# Altium schematic symbol library Power_Protection.SchLib: 98 symbols
Pins are listed as number, name and electrical type; pins without a type are passive.

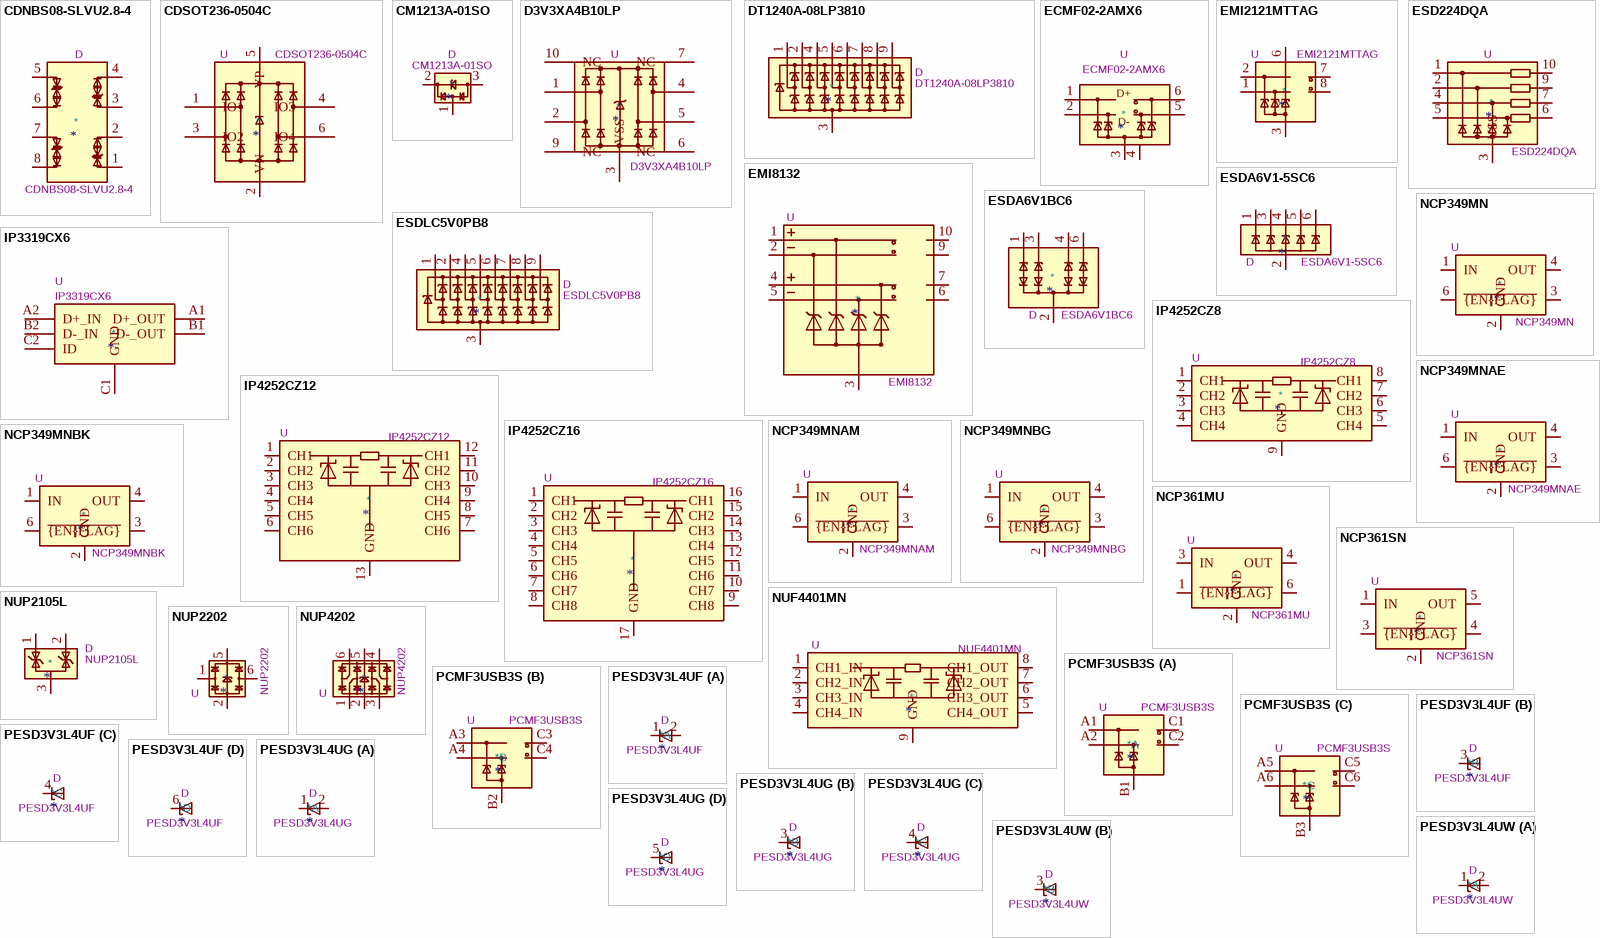
[diagram p0: symbols CDNBS08-SLVU2.8-4 to PESD3V3L4UW]

## CDNBS08-SLVU2.8-4
designator *  value CDNBS08-SLVU2.8-4  Reference: D
ki_keywords: ESD protection suppression transient; ki_description: Quad bidirectional transil, Suppressor for ESD protection, 5V Standoff, 4 Channels, SOIC-8; ki_fp_filters: SOIC*3.9x4.9mm*P1.27mm*; Footprint: Package_SO:SOIC-8_3.9x4.9mm_P1.27mm; Datasheet: https://www.bourns.com/pdfs/CDNBS08-SLVU28-4.pdf
pins: 1 TVS1, 2 TVS2, 3 TVS1, 4 TVS2, 5 TVS1, 6 TVS2, 7 TVS1, 8 TVS2

## CDSOT236-0504C
designator *  value CDSOT236-0504C  Reference: U
ki_keywords: ESD protection diodes; ki_description: Low capacitance ESD diode / steering Diode Array, SOT23-6; ki_fp_filters: SOT?23*; Footprint: Package_TO_SOT_SMD:SOT-23-6; Datasheet: https://www.bourns.com/docs/product-datasheets/cdsot236-0504c.pdf
pins: 1 IO1, 2 VN, 3 IO2, 4 IO3, 5 VP, 6 IO4

## CM1213A-01SO
designator *  value CM1213A-01SO  Reference: D
ki_keywords: ESD Protection diodes transient suppressor; ki_description: Single Channel ESD Protection Array; ki_fp_filters: SOT?23*; Footprint: Package_TO_SOT_SMD:SOT-23; Datasheet: http://www.onsemi.com/pub_link/Collateral/CM1213A-D.PDF
pins: 1 CH1, 2 VP, 3 VN

## D3V3XA4B10LP
designator *  value D3V3XA4B10LP  Reference: U
ki_keywords: ESD protection TVS; ki_description: 4-Channel Low Capacitance TVS Diode Array, DFN-10; ki_fp_filters: Diodes*UDFN*1.0x2.5mm*P0.5mm*; Footprint: Package_DFN_QFN:Diodes_UDFN-10_1.0x2.5mm_P0.5mm; Datasheet: https://www.diodes.com/assets/Datasheets/D3V3XA4B10LP.pdf
pins: 1, 2, 3 VSS, 4, 5, 6 NC, 7 NC, 8 VSS hidden, 9 NC, 10 NC

## DT1240A-08LP3810
designator *  value DT1240A-08LP3810  Reference: D
ki_keywords: usb esd protection suppression transient; ki_description: Low Capacitance TVS Diode Array, 3.3V Standoff, 8 Channels, UDFN-9; ki_fp_filters: UDFN*1.0x3.8mm*P0.5mm*; Footprint: Package_DFN_QFN:UDFN-9_1.0x3.8mm_P0.5mm; Datasheet: https://www.diodes.com/assets/Datasheets/DT1240A-08LP3810.pdf
pins: 1 K1, 2 K2, 3 A, 4 K3, 5 K4, 6 K5, 7 K6, 8 K7, 9 K8

## ECMF02-2AMX6
designator *  value ECMF02-2AMX6  Reference: U
ki_keywords: Common Mode ESD; ki_description: Single Pair Common Mode Filter with ESD Protection, UQFN-6L; ki_fp_filters: ST?UQFN*L?1.5x1.7mm*P0.5mm*; Footprint: Package_DFN_QFN:ST_UQFN-6L_1.5x1.7mm_P0.5mm; Datasheet: https://www.st.com/resource/en/datasheet/ecmf02-2amx6.pdf
pins: 1 D+_in, 2 D-_in, 3 GND, 4 NC, 5 D-_out, 6 D+_out
text: D+; D-

## EMI2121MTTAG
designator *  value EMI2121MTTAG  Reference: U
ki_keywords: Common Mode ESD; ki_description: Single Pair Common Mode Filter with ESD Protection, WDFN-8; ki_fp_filters: WDFN*1EP*2x2.2mm*P0.5mm*; Footprint: Package_DFN_QFN:WDFN-8-1EP_2x2.2mm_P0.5mm_EP0.80x0.54; Datasheet: https://www.onsemi.com/pub/Collateral/EMI2121MT-D.PDF
pins: 1 In_1+, 2 In_1-, 3 GND, 4 GND hidden, 5 GND hidden, 6 VDD, 7 Out_1-, 8 Out_1+, 9 GND hidden

## EMI8132
designator *  value EMI8132  Reference: U
ki_keywords: Common Mode ESD; ki_description: On Semi, Dual Pair Common Mode Filter with ESD Protection, 3.3V working voltage, XDFN-10; ki_fp_filters: *XDFN*1.35x2.2mm*P0.4mm*; Footprint: Package_DFN_QFN:OnSemi_XDFN-10_1.35x2.2mm_P0.4mm; Datasheet: https://www.onsemi.com/pdf/datasheet/emi8132-d.pdf
pins: 1 In_1+, 2 In_1-, 3 GND, 4 In_1+, 5 In_1-, 6 Out_1+, 7 Out_1+, 8 GND hidden, 9 Out_1+, 10 Out_1+

## ESD224DQA
designator *  value ESD224DQA  Reference: U
ki_keywords: ESD protection TVS; ki_description: 4-Channel Low Capacitance TVS Diode Array, USON-10; ki_fp_filters: Diodes*UDFN*1.0x2.5mm*P0.5mm*; Footprint: Package_DFN_QFN:Diodes_UDFN-10_1.0x2.5mm_P0.5mm; Datasheet: https://www.ti.com/lit/ds/symlink/esd224.pdf
pins: 1, 2, 3 VSS, 4, 5, 6, 7, 8 VSS hidden, 9, 10

## ESDA6V1-5SC6
designator *  value ESDA6V1-5SC6  Reference: D
ki_keywords: ESD protection suppression transient; ki_description: Quintuple bidirectional transil, Suppressor for ESD protection, 6V1 Breakdown, SOT-23-6; ki_fp_filters: SOT?23*; Footprint: Package_TO_SOT_SMD:SOT-23-6; Datasheet: www.st.com/resource/en/datasheet/esda6v1-5sc6.pdf
pins: 1 IO1, 2 GND, 3 IO2, 4 IO3, 5 IO4, 6 IO5

## ESDA6V1BC6
designator *  value ESDA6V1BC6  Reference: D
ki_keywords: ESD protection suppression transient; ki_description: Quad bidirectional transil, Suppressor for ESD protection, 5V Standoff, 4 Channels, SOT-23-6; ki_fp_filters: SOT?23*; Footprint: Package_TO_SOT_SMD:SOT-23-6; Datasheet: http://www.st.com/content/ccc/resource/technical/document/datasheet/21/07/21/e3/a8/df/42/a2/CD00001906.pdf/files/CD00001906.pdf/jcr:content/translations/en.CD00001906.pdf
pins: 1 TVS1, 2 COM, 3 TVS2, 4 TVS3, 5 COM hidden, 6 TVS4

## ESDLC5V0PB8
designator *  value ESDLC5V0PB8  Reference: D
ki_keywords: usb esd protection suppression transient; ki_description: TVS Diode Array, 5.0V Standoff, 8 Channels, UDFN-9; ki_fp_filters: UDFN*1.0x3.8mm*P0.5mm*; Footprint: Package_DFN_QFN:UDFN-9_1.0x3.8mm_P0.5mm; Datasheet: https://www.mccsemi.com/pdf/Products/ESDLC5V0PB8(DFN3810-9)-A.pdf
pins: 1 K1, 2 K2, 3 A, 4 K3, 5 K4, 6 K5, 7 K6, 8 K7, 9 K8

## IP3319CX6
designator *  value IP3319CX6  Reference: U
ki_keywords: common mode filter ESD protection; ki_description: Single channel common mode filter with integrated ESD protection network; ki_fp_filters: WLCSP*1.4x1.0mm*P0.4mm*; Footprint: Package_CSP:WLCSP-6_1.4x1.0mm_P0.4mm; Datasheet: https://assets.nexperia.com/documents/data-sheet/IP3319CX6.pdf
pins: A1 D+_OUT, A2 D+_IN, B1 D-_OUT, B2 D-_IN, C1 GND, C2 ID

## IP4252CZ8
designator *  value IP4252CZ8  Reference: U
ki_keywords: EMI ESD protection; ki_description: 4 channel EMI filters with integrated ESD protection, 12 pF, 40 Ohm; ki_fp_filters: *HUSON*1.35x1.7*EP0.4x1.2*; Footprint: Package_SON:Nexperia_HUSON-8_USON-8-1EP_1.35x1.7mm_P0.4mm_EP0.4x1.2mm; Datasheet: https://assets.nexperia.com/documents/data-sheet/IP4251_52_53_54-TTL.pdf
pins: 1 CH1, 2 CH2, 3 CH3, 4 CH4, 5 CH4, 6 CH3, 7 CH2, 8 CH1, 9 GND

## IP4252CZ12
designator *  value IP4252CZ12  Reference: U
ki_keywords: EMI ESD protection; ki_description: 6 channel EMI filters with integrated ESD protection, 12 pF, 40 Ohm; ki_fp_filters: *HUSON*1.35x2.5*EP0.4x2*; Footprint: Package_SON:Nexperia_HUSON-12_USON-12-1EP_1.35x2.5mm_P0.4mm_EP0.4x2mm; Datasheet: https://assets.nexperia.com/documents/data-sheet/IP4251_52_53_54-TTL.pdf
pins: 1 CH1, 2 CH2, 3 CH3, 4 CH4, 5 CH5, 6 CH6, 7 CH6, 8 CH5, 9 CH4, 10 CH3, 11 CH2, 12 CH1, 13 GND

## IP4252CZ16
designator *  value IP4252CZ16  Reference: U
ki_keywords: EMI ESD protection; ki_description: 8 channel EMI filters with integrated ESD protection,  12 pF, 40 Ohm; ki_fp_filters: *HUSON*1.35x3.3*EP0.4x2.8*; Footprint: Package_SON:Nexperia_HUSON-16_USON-16-1EP_1.35x3.3mm_P0.4mm_EP0.4x2.8mm; Datasheet: https://assets.nexperia.com/documents/data-sheet/IP4251_52_53_54-TTL.pdf
pins: 1 CH1, 2 CH2, 3 CH3, 4 CH4, 5 CH5, 6 CH6, 7 CH7, 8 CH8, 9 CH8, 10 CH7, 11 CH6, 12 CH5, 13 CH4, 14 CH3, 15 CH2, 16 CH1, 17 GND

## NCP349MN
designator *  value NCP349MN  Reference: U
ki_keywords: overvoltage protection; ki_description: 28V Positive Overvoltage Protection Controller, DFN-6; ki_fp_filters: DFN*1EP*2x1.6mm*P0.5mm*; Footprint: Package_DFN_QFN:DFN-6-1EP_2x1.6mm_P0.5mm_EP1.15x1.3mm; Datasheet: https://www.onsemi.com/pdf/datasheet/ncp349-d.pdf
pins: 1 IN, 2 GND, 3 ~{{FLAG}}, 4 OUT, 5 OUT hidden, 6 ~{{EN}}, 7 IN hidden

## NCP349MNAE
designator *  value NCP349MNAE  Reference: U
ki_keywords: overvoltage protection; ki_description: 28V Positive Overvoltage Protection Controller, DFN-6; ki_fp_filters: DFN*1EP*2x1.6mm*P0.5mm*; Footprint: Package_DFN_QFN:DFN-6-1EP_2x1.6mm_P0.5mm_EP1.15x1.3mm; Datasheet: https://www.onsemi.com/pdf/datasheet/ncp349-d.pdf
pins: 1 IN, 2 GND, 3 ~{{FLAG}}, 4 OUT, 5 OUT hidden, 6 ~{{EN}}, 7 IN hidden

## NCP349MNAM
designator *  value NCP349MNAM  Reference: U
ki_keywords: overvoltage protection; ki_description: 28V Positive Overvoltage Protection Controller, DFN-6; ki_fp_filters: DFN*1EP*2x1.6mm*P0.5mm*; Footprint: Package_DFN_QFN:DFN-6-1EP_2x1.6mm_P0.5mm_EP1.15x1.3mm; Datasheet: https://www.onsemi.com/pdf/datasheet/ncp349-d.pdf
pins: 1 IN, 2 GND, 3 ~{{FLAG}}, 4 OUT, 5 OUT hidden, 6 ~{{EN}}, 7 IN hidden

## NCP349MNBG
designator *  value NCP349MNBG  Reference: U
ki_keywords: overvoltage protection; ki_description: 28V Positive Overvoltage Protection Controller, DFN-6; ki_fp_filters: DFN*1EP*2x1.6mm*P0.5mm*; Footprint: Package_DFN_QFN:DFN-6-1EP_2x1.6mm_P0.5mm_EP1.15x1.3mm; Datasheet: https://www.onsemi.com/pdf/datasheet/ncp349-d.pdf
pins: 1 IN, 2 GND, 3 ~{{FLAG}}, 4 OUT, 5 OUT hidden, 6 ~{{EN}}, 7 IN hidden

## NCP349MNBK
designator *  value NCP349MNBK  Reference: U
ki_keywords: overvoltage protection; ki_description: 28V Positive Overvoltage Protection Controller, DFN-6; ki_fp_filters: DFN*1EP*2x1.6mm*P0.5mm*; Footprint: Package_DFN_QFN:DFN-6-1EP_2x1.6mm_P0.5mm_EP1.15x1.3mm; Datasheet: https://www.onsemi.com/pdf/datasheet/ncp349-d.pdf
pins: 1 IN, 2 GND, 3 ~{{FLAG}}, 4 OUT, 5 OUT hidden, 6 ~{{EN}}, 7 IN hidden

## NCP361MU
designator *  value NCP361MU  Reference: U
ki_keywords: overvoltage protection USB; ki_description: USB Positive Overvoltage Protection Controller with Internal PMOS FET and Overcurrent Protection, DFN-6; ki_fp_filters: DFN*1EP*2x2mm*P0.65mm*; Footprint: Package_DFN_QFN:DFN-6-1EP_2x2mm_P0.65mm_EP1x1.6mm; Datasheet: https://www.onsemi.com/pdf/datasheet/ncp361-d.pdf
pins: 1 ~{{EN}}, 2 GND, 3 IN, 4 OUT, 5 OUT hidden, 6 ~{{FLAG}}

## NCP361SN
designator *  value NCP361SN  Reference: U
ki_keywords: overvoltage protection USB; ki_description: USB Positive Overvoltage Protection Controller with Internal PMOS FET and Overcurrent Protection, TSOP-5; ki_fp_filters: TSOP*1.65x3.05*P0.95*; Footprint: Package_SO:TSOP-5_1.65x3.05mm_P0.95mm; Datasheet: https://www.onsemi.com/pdf/datasheet/ncp361-d.pdf
pins: 1 IN, 2 GND, 3 ~{{EN}}, 4 ~{{FLAG}}, 5 OUT

## NUF4401MN
designator *  value NUF4401MN  Reference: U
ki_keywords: EMI, ESD protection; ki_description: 4 channel EMI filters with integrated ESD protection, DFN-8; ki_fp_filters: DFN*1EP*2x2mm*P0.5mm*; Footprint: Package_DFN_QFN:DFN-8-1EP_2x2mm_P0.5mm_EP0.7x1.3mm; Datasheet: https://www.onsemi.com/pub/Collateral/NUF4401MN-D.PDF
pins: 1 CH1_IN, 2 CH2_IN, 3 CH3_IN, 4 CH4_IN, 5 CH4_OUT, 6 CH3_OUT, 7 CH2_OUT, 8 CH1_OUT, 9 GND

## NUP2105L
designator *  value NUP2105L  Reference: D
ki_keywords: can esd protection suppression transient; ki_description: Dual Line CAN Bus Protector, 24Vrwm; ki_fp_filters: SOT?23*; Footprint: Package_TO_SOT_SMD:SOT-23; Datasheet: http://www.onsemi.com/pub_link/Collateral/NUP2105L-D.PDF
pins: 1 K, 2 K, 3 A

## NUP2202
designator *  value NUP2202  Reference: U
ki_keywords: ESD Protection diodes  transient suppressor; ki_description: Transient voltage suppressor designed to protect high speed data lines from ESD, EFT, and lightning; ki_fp_filters: SOT?363*; Footprint: Package_TO_SOT_SMD:SOT-363_SC-70-6; Datasheet: http://www.onsemi.ru.com/pub_link/Collateral/NUP2202W1-D.PDF
pins: 1, 2, 3 hidden, 4 hidden, 5, 6

## NUP4202
designator *  value NUP4202  Reference: U
ki_keywords: ESD Protection diodes  transient suppressor; ki_description: Transient voltage suppressor designed to protect high speed data lines from ESD, EFT, and lightning; ki_fp_filters: SOT?363*; Footprint: Package_TO_SOT_SMD:SOT-363_SC-70-6; Datasheet: http://www.onsemi.com/pub_link/Collateral/NUP4202W1-D.PDF
pins: 1, 2, 3, 4, 5, 6

## PCMF3USB3S
designator *  value PCMF3USB3S  Reference: U
ki_keywords: Common Mode ESD; ki_description: Common-mode EMI filter for differential channels with integrated ESD protection; ki_fp_filters: *WLCSP*6?3?6*2.37x1.17mm*Layout6x3*P0.4mm*; Footprint: Package_CSP:Nexperia_WLCSP-15_6-3-6_2.37x1.17mm_Layout6x3_P0.4mm; Datasheet: https://assets.nexperia.com/documents/data-sheet/PCMFXUSB3S_SER.pdf
part A pins: A1 CH1_IN+, A2 CH1_IN-, B1 GND_CH1, C1 CH1_OUT+, C2 CH1_OUT-
part B pins: A3 CH2_IN+, A4 CH2_IN-, B2 GND_CH2, C3 CH2_OUT+, C4 CH2_OUT-
part C pins: A5 CH3_IN+, A6 CH3_IN-, B3 GND_CH3, C5 CH3_OUT+, C6 CH3_OUT-

## PESD3V3L4UF
designator *  value PESD3V3L4UF  Reference: D
ki_keywords: diode; ki_description: Low capacitance unidirectional quadruple ESD protection diode array, 3.3V, Common Anode, SOT-886; ki_fp_filters: SOT?886*; Footprint: Package_TO_SOT_SMD:SOT-886; Datasheet: https://assets.nexperia.com/documents/data-sheet/PESDXL4UF_G_W.pdf
part A pins: 1 K1, 2 A, 5 A hidden
part B pins: 3 K2
part C pins: 4 K3
part D pins: 6 K4

## PESD3V3L4UG
designator *  value PESD3V3L4UG  Reference: D
ki_keywords: diode; ki_description: Low capacitance unidirectional quadruple ESD protection diode array, 3.3V, Common Anode, SOT-353; ki_fp_filters: SOT?353*; Footprint: Package_TO_SOT_SMD:SOT-353_SC-70-5; Datasheet: https://assets.nexperia.com/documents/data-sheet/PESDXL4UF_G_W.pdf
part A pins: 1 K1, 2 A
part B pins: 3 K2
part C pins: 4 K3
part D pins: 5 K4

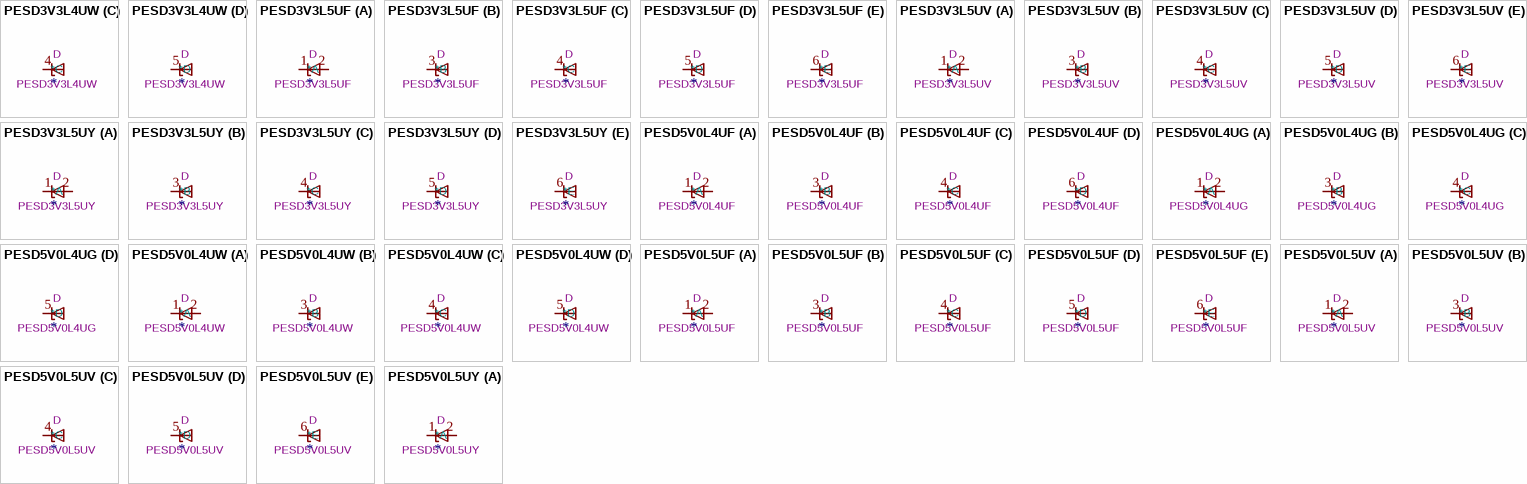
[diagram p1: symbols PESD3V3L4UW to PESD5V0L5UY]

## PESD3V3L4UW
designator *  value PESD3V3L4UW  Reference: D
ki_keywords: diode; ki_description: Low capacitance unidirectional quadruple ESD protection diode array, 3.3V, Common Anode, SOT-665; ki_fp_filters: SOT?665*; Footprint: Package_TO_SOT_SMD:SOT-665; Datasheet: https://assets.nexperia.com/documents/data-sheet/PESDXL4UF_G_W.pdf
part A pins: 1 K1, 2 A
part B pins: 3 K2
part C pins: 4 K3
part D pins: 5 K4

## PESD3V3L5UF
designator *  value PESD3V3L5UF  Reference: D
ki_keywords: diode; ki_description: Low capacitance unidirectional fivefold ESD protection diode array, 3.3V, Common Anode, SOT-886; ki_fp_filters: SOT?886*; Footprint: Package_TO_SOT_SMD:SOT-886; Datasheet: https://assets.nexperia.com/documents/data-sheet/PESDXL5UF_V_Y.pdf
part A pins: 1 K1, 2 A
part B pins: 3 K2
part C pins: 4 K3
part D pins: 5 K4
part E pins: 6 K5

## PESD3V3L5UV
designator *  value PESD3V3L5UV  Reference: D
ki_keywords: diode; ki_description: Low capacitance unidirectional fivefold ESD protection diode array, 3.3V, Common Anode, SOT-666; ki_fp_filters: SOT?666*; Footprint: Package_TO_SOT_SMD:SOT-666; Datasheet: https://assets.nexperia.com/documents/data-sheet/PESDXL5UF_V_Y.pdf
part A pins: 1 K1, 2 A
part B pins: 3 K2
part C pins: 4 K3
part D pins: 5 K4
part E pins: 6 K5

## PESD3V3L5UY
designator *  value PESD3V3L5UY  Reference: D
ki_keywords: diode; ki_description: Low capacitance unidirectional fivefold ESD protection diode array, 3.3V, Common Anode, SOT-363; ki_fp_filters: SOT?363*; Footprint: Package_TO_SOT_SMD:SOT-363_SC-70-6; Datasheet: https://assets.nexperia.com/documents/data-sheet/PESDXL5UF_V_Y.pdf
part A pins: 1 K1, 2 A
part B pins: 3 K2
part C pins: 4 K3
part D pins: 5 K4
part E pins: 6 K5

## PESD5V0L4UF
designator *  value PESD5V0L4UF  Reference: D
ki_keywords: diode; ki_description: Low capacitance unidirectional quadruple ESD protection diode array, 5.0V, Common Anode, SOT-886; ki_fp_filters: SOT?886*; Footprint: Package_TO_SOT_SMD:SOT-886; Datasheet: https://assets.nexperia.com/documents/data-sheet/PESDXL4UF_G_W.pdf
part A pins: 1 K1, 2 A, 5 A hidden
part B pins: 3 K2
part C pins: 4 K3
part D pins: 6 K4

## PESD5V0L4UG
designator *  value PESD5V0L4UG  Reference: D
ki_keywords: diode; ki_description: Low capacitance unidirectional quadruple ESD protection diode array, 5.0V, Common Anode, SOT-353; ki_fp_filters: SOT?353*; Footprint: Package_TO_SOT_SMD:SOT-353_SC-70-5; Datasheet: https://assets.nexperia.com/documents/data-sheet/PESDXL4UF_G_W.pdf
part A pins: 1 K1, 2 A
part B pins: 3 K2
part C pins: 4 K3
part D pins: 5 K4

## PESD5V0L4UW
designator *  value PESD5V0L4UW  Reference: D
ki_keywords: diode; ki_description: Low capacitance unidirectional quadruple ESD protection diode array, 5.0V, Common Anode, SOT-665; ki_fp_filters: SOT?665*; Footprint: Package_TO_SOT_SMD:SOT-665; Datasheet: https://assets.nexperia.com/documents/data-sheet/PESDXL4UF_G_W.pdf
part A pins: 1 K1, 2 A
part B pins: 3 K2
part C pins: 4 K3
part D pins: 5 K4

## PESD5V0L5UF
designator *  value PESD5V0L5UF  Reference: D
ki_keywords: diode; ki_description: Low capacitance unidirectional fivefold ESD protection diode array, 5.0V, Common Anode, SOT-886; ki_fp_filters: SOT?886*; Footprint: Package_TO_SOT_SMD:SOT-886; Datasheet: https://assets.nexperia.com/documents/data-sheet/PESDXL5UF_V_Y.pdf
part A pins: 1 K1, 2 A
part B pins: 3 K2
part C pins: 4 K3
part D pins: 5 K4
part E pins: 6 K5

## PESD5V0L5UV
designator *  value PESD5V0L5UV  Reference: D
ki_keywords: diode; ki_description: Low capacitance unidirectional fivefold ESD protection diode array, 5.0V, Common Anode, SOT-666; ki_fp_filters: SOT?666*; Footprint: Package_TO_SOT_SMD:SOT-666; Datasheet: https://assets.nexperia.com/documents/data-sheet/PESDXL5UF_V_Y.pdf
part A pins: 1 K1, 2 A
part B pins: 3 K2
part C pins: 4 K3
part D pins: 5 K4
part E pins: 6 K5

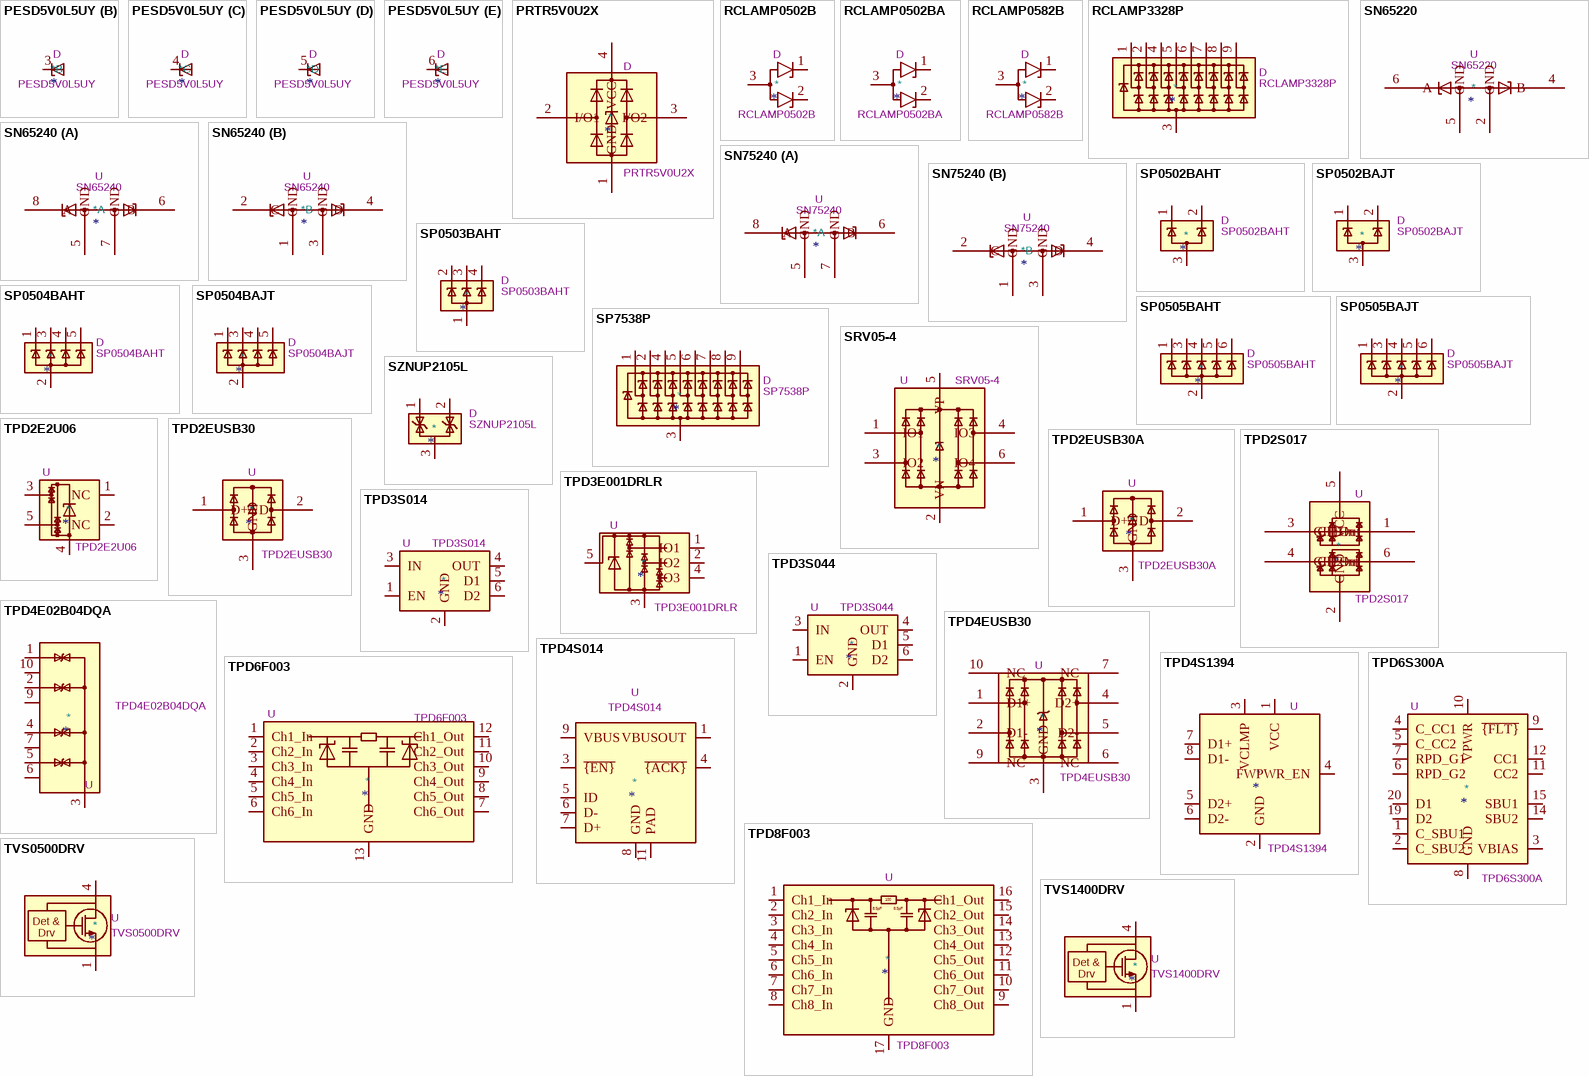
[diagram p2: symbols PESD5V0L5UY to TVS1400DRV]

## PESD5V0L5UY
designator *  value PESD5V0L5UY  Reference: D
ki_keywords: diode; ki_description: Low capacitance unidirectional fivefold ESD protection diode array, 5.0V, Common Anode, SOT-363; ki_fp_filters: SOT?363*; Footprint: Package_TO_SOT_SMD:SOT-363_SC-70-6; Datasheet: https://assets.nexperia.com/documents/data-sheet/PESDXL5UF_V_Y.pdf
part A pins: 1 K1, 2 A
part B pins: 3 K2
part C pins: 4 K3
part D pins: 5 K4
part E pins: 6 K5

## PRTR5V0U2X
designator *  value PRTR5V0U2X  Reference: D
ki_keywords: ESD protection diode; ki_description: Ultra low capacitance double rail-to-rail ESD protection diode, SOT-143; ki_fp_filters: SOT?143*; Footprint: Package_TO_SOT_SMD:SOT-143; Datasheet: https://assets.nexperia.com/documents/data-sheet/PRTR5V0U2X.pdf
pins: 1 GND, 2 I/O1, 3 I/O2, 4 VCC

## RCLAMP0502B
designator *  value RCLAMP0502B  Reference: D
ki_keywords: tvs unidirectional; ki_description: Low capacitance unidirectional dual ESD protection diode, SC-75; ki_fp_filters: SOT?416*; Footprint: Package_TO_SOT_SMD:SOT-416; Datasheet: https://www.semtech.com/products/circuit-protection/low-capacitance/rclamp0502b
pins: 1 K1, 2 K2, 3 A

## RCLAMP0502BA
designator *  value RCLAMP0502BA  Reference: D
ki_keywords: tvs unidirectional; ki_description: Low capacitance unidirectional dual ESD protection diode, SC-75; ki_fp_filters: SOT?416*; Footprint: Package_TO_SOT_SMD:SOT-416; Datasheet: https://www.semtech.com/products/circuit-protection/low-capacitance/rclamp0502ba
pins: 1 K1, 2 K2, 3 A

## RCLAMP0582B
designator *  value RCLAMP0582B  Reference: D
ki_keywords: tvs unidirectional; ki_description: Low capacitance unidirectional dual ESD protection diode, SC-75; ki_fp_filters: SOT?416*; Footprint: Package_TO_SOT_SMD:SOT-416; Datasheet: https://www.semtech.com/products/circuit-protection/low-capacitance/rclamp0582b
pins: 1 K1, 2 K2, 3 A

## RCLAMP3328P
designator *  value RCLAMP3328P  Reference: D
ki_keywords: usb esd protection suppression transient; ki_description: Low Capacitance TVS Diode Array, 3.3V Standoff, 8 Channels, UDFN-9; ki_fp_filters: UDFN*1.0x3.8mm*P0.5mm*; Footprint: Package_DFN_QFN:UDFN-9_1.0x3.8mm_P0.5mm; Datasheet: https://media.digikey.com/pdf/Data%20Sheets/Semtech%20PDFs/RCLAMP3328P.pdf
pins: 1 K1, 2 K2, 3 A, 4 K3, 5 K4, 6 K5, 7 K6, 8 K7, 9 K8

## SN65220
designator *  value SN65220  Reference: U
ki_keywords: USB suppressor; ki_description: USB port transient suppressors; ki_fp_filters: SOT?23*; Footprint: Package_TO_SOT_SMD:SOT-23-6; Datasheet: http://www.ti.com/lit/ds/symlink/sn65220.pdf
pins: 1 hidden, 2 GND, 3 hidden, 4 B, 5 GND, 6 A

## SN65240
designator *  value SN65240  Reference: U
ki_keywords: USB suppressor; ki_description: USB port transient suppressors; ki_fp_filters: DIP*7.62mm* TSSOP*4.4x3mm*0.65mm*; Datasheet: http://www.ti.com/lit/ds/symlink/sn65220.pdf
part A pins: 5 GND, 6 B, 7 GND, 8 A
part B pins: 1 GND, 2 C, 3 GND, 4 D

## SN75240
designator *  value SN75240  Reference: U
ki_keywords: USB suppressor; ki_description: USB port transient suppressors; ki_fp_filters: DIP*7.62mm* TSSOP*4.4x3mm*0.65mm*; Datasheet: http://www.ti.com/lit/ds/symlink/sn65220.pdf
part A pins: 5 GND, 6 B, 7 GND, 8 A
part B pins: 1 GND, 2 C, 3 GND, 4 D

## SP0502BAHT
designator *  value SP0502BAHT  Reference: D
ki_keywords: usb esd protection suppression transient; ki_description: TVS Diode Array, 5.5V Standoff, 2 Channels, SOT-23 package; ki_fp_filters: SOT?23*; Footprint: Package_TO_SOT_SMD:SOT-23; Datasheet: http://www.littelfuse.com/~/media/files/littelfuse/technical%20resources/documents/data%20sheets/sp05xxba.pdf
pins: 1 K, 2 K, 3 A

## SP0502BAJT
designator *  value SP0502BAJT  Reference: D
ki_keywords: usb esd protection suppression transient; ki_description: TVS Diode Array, 5.5V Standoff, 2 Channels, SC-70 package; ki_fp_filters: SOT?323*; Footprint: Package_TO_SOT_SMD:SOT-323_SC-70; Datasheet: http://www.littelfuse.com/~/media/files/littelfuse/technical%20resources/documents/data%20sheets/sp05xxba.pdf
pins: 1 K, 2 K, 3 A

## SP0503BAHT
designator *  value SP0503BAHT  Reference: D
ki_keywords: usb esd protection suppression transient; ki_description: TVS Diode Array, 5.5V Standoff, 3 Channels, SOT-143 package; ki_fp_filters: SOT?143*; Footprint: Package_TO_SOT_SMD:SOT-143; Datasheet: http://www.littelfuse.com/~/media/files/littelfuse/technical%20resources/documents/data%20sheets/sp05xxba.pdf
pins: 1 A, 2 K, 3 K, 4 K

## SP0504BAHT
designator *  value SP0504BAHT  Reference: D
ki_keywords: usb esd protection suppression transient; ki_description: TVS Diode Array, 5.5V Standoff, 4 Channels, SOT-23-5 package; ki_fp_filters: SOT?23*; Footprint: Package_TO_SOT_SMD:SOT-23-5; Datasheet: http://www.littelfuse.com/~/media/files/littelfuse/technical%20resources/documents/data%20sheets/sp05xxba.pdf
pins: 1 K, 2 A, 3 K, 4 K, 5 K

## SP0504BAJT
designator *  value SP0504BAJT  Reference: D
ki_keywords: usb esd protection suppression transient; ki_description: TVS Diode Array, 5.5V Standoff, 4 Channels, SC-70-5 package; ki_fp_filters: SOT?353*; Footprint: Package_TO_SOT_SMD:SOT-353_SC-70-5; Datasheet: http://www.littelfuse.com/~/media/files/littelfuse/technical%20resources/documents/data%20sheets/sp05xxba.pdf
pins: 1 K, 2 A, 3 K, 4 K, 5 K

## SP0505BAHT
designator *  value SP0505BAHT  Reference: D
ki_keywords: usb esd protection suppression transient; ki_description: TVS Diode Array, 5.5V Standoff, 5 Channels, SOT-23-6 package; ki_fp_filters: SOT?23*; Footprint: Package_TO_SOT_SMD:SOT-23-6; Datasheet: http://www.littelfuse.com/~/media/files/littelfuse/technical%20resources/documents/data%20sheets/sp05xxba.pdf
pins: 1 K, 2 A, 3 K, 4 K, 5 K, 6 K

## SP0505BAJT
designator *  value SP0505BAJT  Reference: D
ki_keywords: usb esd protection suppression transient; ki_description: TVS Diode Array, 5.5V Standoff, 5 Channels, SC-70-6 package; ki_fp_filters: SOT?363*; Footprint: Package_TO_SOT_SMD:SOT-363_SC-70-6; Datasheet: http://www.littelfuse.com/~/media/files/littelfuse/technical%20resources/documents/data%20sheets/sp05xxba.pdf
pins: 1 K, 2 A, 3 K, 4 K, 5 K, 6 K

## SP7538P
designator *  value SP7538P  Reference: D
ki_keywords: usb esd protection suppression transient; ki_description: Low Capacitance TVS Diode Array, 5.0V Standoff, 8 Channels, UDFN-9; ki_fp_filters: UDFN*1.0x3.8mm*P0.5mm*; Footprint: Package_DFN_QFN:UDFN-9_1.0x3.8mm_P0.5mm; Datasheet: https://www.littelfuse.com/~/media/electronics/datasheets/tvs_diode_arrays/littelfuse_tvs_diode_array_sp7538p_datasheet.pdf.pdf
pins: 1 K1, 2 K2, 3 A, 4 K3, 5 K4, 6 K5, 7 K6, 8 K7, 9 K8

## SRV05-4
designator *  value SRV05-4  Reference: U
ki_keywords: ESD protection diodes; ki_description: ESD Protection Diodes with Low Clamping Voltage, SOT-23-6; ki_fp_filters: SOT?23*; Footprint: Package_TO_SOT_SMD:SOT-23-6; Datasheet: http://www.onsemi.com/pub/Collateral/SRV05-4-D.PDF
pins: 1 IO1, 2 VN, 3 IO2, 4 IO3, 5 VP, 6 IO4

## SZNUP2105L
designator *  value SZNUP2105L  Reference: D
ki_keywords: can esd protection suppression transient automotive; ki_description: Dual Line CAN Bus Protector, 24Vrwm, Automotive Grade; ki_fp_filters: SOT?23*; Footprint: Package_TO_SOT_SMD:SOT-23; Datasheet: http://www.onsemi.com/pub_link/Collateral/NUP2105L-D.PDF
pins: 1 K, 2 K, 3 A

## TPD2E2U06
designator *  value TPD2E2U06  Reference: U
ki_keywords: ESD-Protection; ki_description: Dual-Channel High-Speed ESD Protection; ki_fp_filters: SOT?543*; Footprint: Package_TO_SOT_SMD:SOT-543; Datasheet: http://www.ti.com/lit/ds/symlink/tpd2e2u06.pdf
pins: 1 NC, 2 NC, 3, 4, 5

## TPD2EUSB30
designator *  value TPD2EUSB30  Reference: U
ki_keywords: ESD protection USB 3.0; ki_description: 2-Channel ESD Protection for Super-Speed USB 3.0 Interface, DRT-3; ki_fp_filters: Texas*DRT*; Footprint: Package_TO_SOT_SMD:Texas_DRT-3; Datasheet: http://www.ti.com/lit/ds/symlink/tpd2eusb30a.pdf
pins: 1 D+, 2 D-, 3 GND

## TPD2EUSB30A
designator *  value TPD2EUSB30A  Reference: U
ki_keywords: ESD protection USB 3.0; ki_description: 2-Channel ESD Protection for Super-Speed USB 3.0 Interface, DRT-3; ki_fp_filters: Texas*DRT*; Footprint: Package_TO_SOT_SMD:Texas_DRT-3; Datasheet: http://www.ti.com/lit/ds/symlink/tpd2eusb30a.pdf
pins: 1 D+, 2 D-, 3 GND

## TPD2S017
designator *  value TPD2S017  Reference: U
ki_keywords: ESD protection; ki_description: 2-Channel Ultra-Low Clamp Voltage ESD Solution With Series-Resistor Isolation, SOT-23; ki_fp_filters: SOT?23*; Footprint: Package_TO_SOT_SMD:SOT-23-6; Datasheet: http://www.ti.com/lit/ds/symlink/tpd2s017.pdf
pins: 1 CH1Out, 2 GND, 3 CH1In, 4 CH2Int, 5 VCC, 6 CH2Out

## TPD3E001DRLR
designator *  value TPD3E001DRLR  Reference: U
ki_keywords: ESD-Protection; ki_description: TPD3E001 Low-Capacitance 3-Channel ESD-Protection for High-Speed Data Interfaces; ki_fp_filters: SOT?553*; Footprint: Package_TO_SOT_SMD:SOT-553; Datasheet: http://www.ti.com/lit/ds/symlink/tpd3e001.pdf
pins: 1 IO1, 2 IO2, 3, 4 IO3, 5

## TPD3S014
designator *  value TPD3S014  Reference: U
ki_keywords: ESD-Protection; ki_description: Current Limit Switch and D+/D– ESD Protection for USB Host Port, 0.5A, SOT-23-6; ki_fp_filters: SOT?23*; Footprint: Package_TO_SOT_SMD:SOT-23-6; Datasheet: http://www.ti.com/lit/ds/symlink/tpd3s014.pdf
pins: 1 EN, 2 GND, 3 IN, 4 OUT, 5 D1, 6 D2

## TPD3S044
designator *  value TPD3S044  Reference: U
ki_keywords: ESD-Protection; ki_description: Current Limit Switch and D+/D– ESD Protection for USB Host Port, 1.5A, SOT-23-6; ki_fp_filters: SOT?23*; Footprint: Package_TO_SOT_SMD:SOT-23-6; Datasheet: http://www.ti.com/lit/ds/symlink/tpd3s014.pdf
pins: 1 EN, 2 GND, 3 IN, 4 OUT, 5 D1, 6 D2

## TPD4E02B04DQA
designator *  value TPD4E02B04DQA  Reference: U
ki_keywords: ESD protection USB HDMI; ki_description: 4-Channel ESD Protection Diode for USB Type-C and HDMI 2.0, USON-10; ki_fp_filters: USON*2.5x1.0mm*P0.5mm*; Footprint: Package_SON:USON-10_2.5x1.0mm_P0.5mm; Datasheet: http://www.ti.com/lit/ds/symlink/tpd4e02b04.pdf
pins: 1 IO1, 2 IO2, 3 G, 4 IO3, 5 IO4, 6 NC, 7 NC, 8 G hidden, 9 NC, 10 NC

## TPD4EUSB30
designator *  value TPD4EUSB30  Reference: U
ki_keywords: ESD protection USB 3.0; ki_description: 4-Channel ESD Protection for Super-Speed USB 3.0 Interface, USON-10; ki_fp_filters: USON*2.5x1.0mm*P0.5mm*; Footprint: Package_SON:USON-10_2.5x1.0mm_P0.5mm; Datasheet: http://www.ti.com/lit/ds/symlink/tpd2eusb30a.pdf
pins: 1 D1+, 2 D1-, 3 GND, 4 D2+, 5 D2-, 6 NC, 7 NC, 8 GND hidden, 9 NC, 10 NC

## TPD4S014
designator *  value TPD4S014  Reference: U
ki_keywords: USB  Port Protection; ki_description: USB Charger Port Protection Including ESD Protection for All Lines and Overvoltage Protection on VBUS; ki_fp_filters: Package?SON:Texas?S?PWSON?N10*; Footprint: Package_SON:Texas_S-PWSON-N10; Datasheet: http://www.ti.com/lit/ds/symlink/tpd4s014.pdf
pins: 1 VBUSOUT, 2 VBUSOUT hidden, 3 ~{{EN}}, 4 ~{{ACK}}, 5 ID, 6 D-, 7 D+, 8 GND, 9 VBUS, 10 VBUS hidden, 11 PAD

## TPD4S1394
designator *  value TPD4S1394  Reference: U
ki_keywords: firewire ESD clamp; ki_description: Firewire ESD Clamp With Live-Insertion Detection Circuit, X2SON-8; ki_fp_filters: X2SON*1.4x1mm*P0.35mm*; Footprint: Package_SON:X2SON-8_1.4x1mm_P0.35mm; Datasheet: http://www.ti.com/lit/ds/symlink/tpd4s1394.pdf
pins: 1 VCC, 2 GND, 3 VCLMP, 4 FWPWR_EN, 5 D2+, 6 D2-, 7 D1+, 8 D1-

## TPD6F003
designator *  value TPD6F003  Reference: U
ki_keywords: EMI, ESD protection; ki_description: 6 channel EMI filters with integrated ESD protection; ki_fp_filters: *WSON*EP0.4x2mm*; Footprint: Package_SON:Texas_R-PWSON-N12_EP0.4x2mm; Datasheet: http://www.ti.com/lit/ds/symlink/tpd6f003.pdf
pins: 1 Ch1_In, 2 Ch2_In, 3 Ch3_In, 4 Ch4_In, 5 Ch5_In, 6 Ch6_In, 7 Ch6_Out, 8 Ch5_Out, 9 Ch4_Out, 10 Ch3_Out, 11 Ch2_Out, 12 Ch1_Out, 13 GND

## TPD6S300A
designator *  value TPD6S300A  Reference: U
ki_keywords: USB-C ESD; ki_description: USB Type-C Port Protector: Short-to-VBUS Overvoltage and IEC ESD Protection, WQFN-20; ki_fp_filters: WQFN*1EP*3x3mm*P0.4mm*; Footprint: Package_DFN_QFN:WQFN-20-1EP_3x3mm_P0.4mm_EP1.7x1.7mm_ThermalVias; Datasheet: https://www.ti.com/lit/ds/symlink/tpd6s300a.pdf
pins: 1 C_SBU1, 2 C_SBU2, 3 VBIAS, 4 C_CC1, 5 C_CC2, 6 RPD_G2, 7 RPD_G1, 8 GND, 9 ~{{FLT}}, 10 VPWR, 11 CC2, 12 CC1, 13 GND hidden, 14 SBU2, 15 SBU1, 16 GND hidden, 17 GND hidden, 18 GND hidden, 19 D2, 20 D1, 21 GND hidden

## TPD8F003
designator *  value TPD8F003  Reference: U
ki_keywords: EMI, ESD protection; ki_description: 8 channel EMI filters with integrated ESD protection; ki_fp_filters: WSON*3.3x1.35*P0.4mm*; Footprint: Package_SON:WSON-16_3.3x1.35_P0.4mm; Datasheet: http://www.ti.com/lit/ds/symlink/tpd6f003.pdf
pins: 1 Ch1_In, 2 Ch2_In, 3 Ch3_In, 4 Ch4_In, 5 Ch5_In, 6 Ch6_In, 7 Ch7_In, 8 Ch8_In, 9 Ch8_Out, 10 Ch7_Out, 11 Ch6_Out, 12 Ch5_Out, 13 Ch4_Out, 14 Ch3_Out, 15 Ch2_Out, 16 Ch1_Out, 17 GND
text: 100; 8.5pF

## TVS0500DRV
designator *  value TVS0500DRV  Reference: U
ki_keywords: EMI, ESD, TVS protection transient; ki_description: Flat-Clamp Surge Protection Device. 5Vrwm, WSON-6; ki_fp_filters: WSON*1EP*2x2mm*P0.65mm*EP1x1.6mm*; Footprint: Package_SON:WSON-6-1EP_2x2mm_P0.65mm_EP1x1.6mm; Datasheet: http://www.ti.com/lit/ds/symlink/tvs0500.pdf
pins: 1 GND, 2 GND hidden, 3 GND hidden, 4 IN, 5 IN hidden, 6 IN hidden, 7 GND hidden
text: Det &; Drv

## TVS1400DRV
designator *  value TVS1400DRV  Reference: U
ki_keywords: EMI, ESD, TVS protection transient; ki_description: Flat-Clamp Surge Protection Device. 14Vrwm, WSON-6; ki_fp_filters: WSON*1EP*2x2mm*P0.65mm*EP1x1.6mm*; Footprint: Package_SON:WSON-6-1EP_2x2mm_P0.65mm_EP1x1.6mm; Datasheet: http://www.ti.com/lit/ds/symlink/tvs1400.pdf
pins: 1 GND, 2 GND hidden, 3 GND hidden, 4 IN, 5 IN hidden, 6 IN hidden, 7 GND hidden
text: Det &; Drv

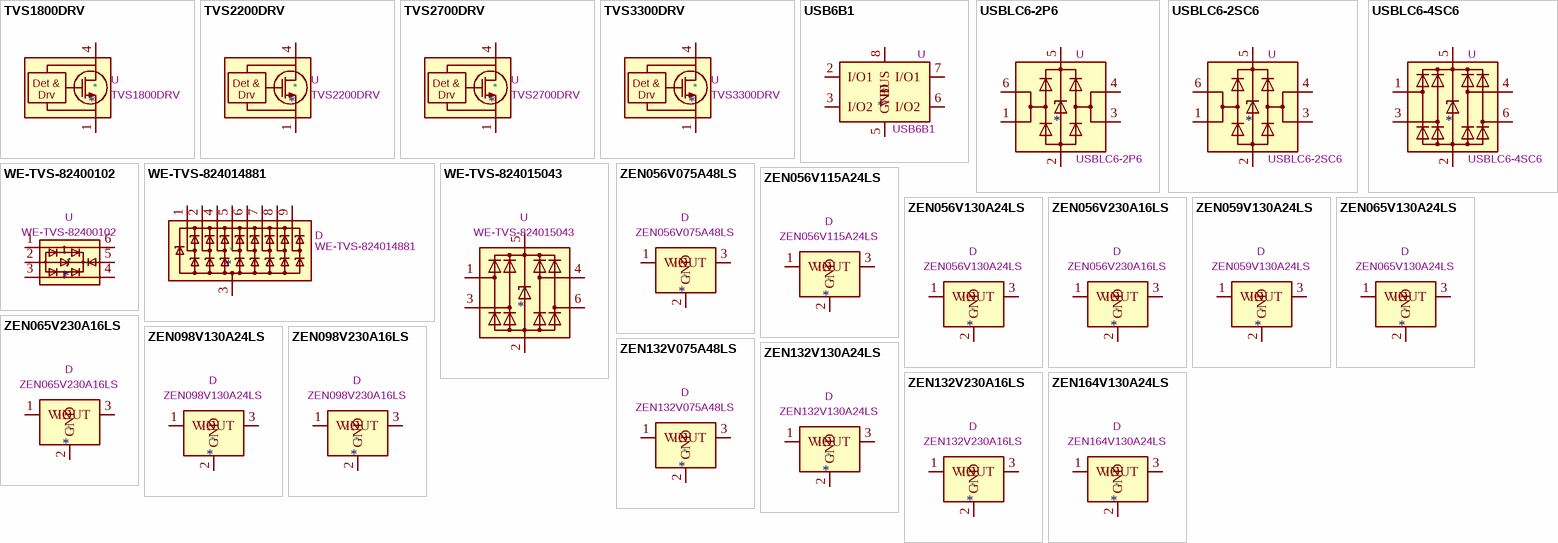
[diagram p3: symbols TVS1800DRV to ZEN164V130A24LS]

## TVS1800DRV
designator *  value TVS1800DRV  Reference: U
ki_keywords: EMI, ESD, TVS protection transient; ki_description: Flat-Clamp Surge Protection Device. 18Vrwm, WSON-6; ki_fp_filters: WSON*1EP*2x2mm*P0.65mm*EP1x1.6mm*; Footprint: Package_SON:WSON-6-1EP_2x2mm_P0.65mm_EP1x1.6mm; Datasheet: http://www.ti.com/lit/ds/symlink/tvs1800.pdf
pins: 1 GND, 2 GND hidden, 3 GND hidden, 4 IN, 5 IN hidden, 6 IN hidden, 7 GND hidden
text: Det &; Drv

## TVS2200DRV
designator *  value TVS2200DRV  Reference: U
ki_keywords: EMI, ESD, TVS protection transient; ki_description: Flat-Clamp Surge Protection Device. 22Vrwm, WSON-6; ki_fp_filters: WSON*1EP*2x2mm*P0.65mm*EP1x1.6mm*; Footprint: Package_SON:WSON-6-1EP_2x2mm_P0.65mm_EP1x1.6mm; Datasheet: http://www.ti.com/lit/ds/symlink/tvs2200.pdf
pins: 1 GND, 2 GND hidden, 3 GND hidden, 4 IN, 5 IN hidden, 6 IN hidden, 7 GND hidden
text: Det &; Drv

## TVS2700DRV
designator *  value TVS2700DRV  Reference: U
ki_keywords: EMI, ESD, TVS protection transient; ki_description: Flat-Clamp Surge Protection Device. 27Vrwm, WSON-6; ki_fp_filters: WSON*1EP*2x2mm*P0.65mm*EP1x1.6mm*; Footprint: Package_SON:WSON-6-1EP_2x2mm_P0.65mm_EP1x1.6mm; Datasheet: http://www.ti.com/lit/ds/symlink/tvs2700.pdf
pins: 1 GND, 2 GND hidden, 3 GND hidden, 4 IN, 5 IN hidden, 6 IN hidden, 7 GND hidden
text: Det &; Drv

## TVS3300DRV
designator *  value TVS3300DRV  Reference: U
ki_keywords: EMI, ESD, TVS protection transient; ki_description: Flat-Clamp Surge Protection Device. 33Vrwm, WSON-6; ki_fp_filters: WSON*1EP*2x2mm*P0.65mm*EP1x1.6mm*; Footprint: Package_SON:WSON-6-1EP_2x2mm_P0.65mm_EP1x1.6mm; Datasheet: http://www.ti.com/lit/ds/symlink/tvs3300.pdf
pins: 1 GND, 2 GND hidden, 3 GND hidden, 4 IN, 5 IN hidden, 6 IN hidden, 7 GND hidden
text: Det &; Drv

## USB6B1
designator *  value USB6B1  Reference: U
ki_keywords: ESD USB; ki_description: 5V Data line protection; ki_fp_filters: SOIC*3.9x4.9mm*P1.27mm*; Footprint: Package_SO:SOIC-8_3.9x4.9mm_P1.27mm; Datasheet: http://www.st.com/content/ccc/resource/technical/document/datasheet/3e/ec/b2/54/b2/76/47/90/CD00001361.pdf/files/CD00001361.pdf/jcr:content/translations/en.CD00001361.pdf
pins: 1 VBUS hidden, 2 I/O1, 3 I/O2, 4 GND hidden, 5 GND, 6 I/O2, 7 I/O1, 8 VBUS

## USBLC6-2P6
designator *  value USBLC6-2P6  Reference: U
ki_keywords: usb ethernet video; ki_description: Very low capacitance ESD protection diode, 2 data-line, SOT-666; ki_fp_filters: SOT?666*; Footprint: Package_TO_SOT_SMD:SOT-666; Datasheet: https://www.st.com/resource/en/datasheet/usblc6-2.pdf
pins: 1 I/O1, 2 GND, 3 I/O2, 4 I/O2, 5 VBUS, 6 I/O1

## USBLC6-2SC6
designator *  value USBLC6-2SC6  Reference: U
ki_keywords: usb ethernet video; ki_description: Very low capacitance ESD protection diode, 2 data-line, SOT-23-6; ki_fp_filters: SOT?23*; Footprint: Package_TO_SOT_SMD:SOT-23-6; Datasheet: https://www.st.com/resource/en/datasheet/usblc6-2.pdf
pins: 1 I/O1, 2 GND, 3 I/O2, 4 I/O2, 5 VBUS, 6 I/O1

## USBLC6-4SC6
designator *  value USBLC6-4SC6  Reference: U
ki_keywords: usb ethernet sim card video; ki_description: Very low capacitance ESD protection diode, 4 data-line, SOT-23-6; ki_fp_filters: SOT?23*; Footprint: Package_TO_SOT_SMD:SOT-23-6; Datasheet: https://www.st.com/resource/en/datasheet/usblc6-4.pdf
pins: 1 I/O1, 2 GND, 3 I/O2, 4 I/O3, 5 VBUS, 6 I/O4

## WE-TVS-82400102
designator *  value WE-TVS-82400102  Reference: U
ki_keywords: ESD Protection TVS High-speed USB; ki_description: Low Capacitance TVS Diode Array, 2 Channels, SOT-23-6; ki_fp_filters: SOT?23*; Footprint: Package_TO_SOT_SMD:SOT-23-6; Datasheet: https://www.we-online.com/components/products/datasheet/82400102.pdf
pins: 1, 2, 3, 4, 5, 6

## WE-TVS-824014881
designator *  value WE-TVS-824014881  Reference: D
ki_keywords: usb esd protection suppression transient; ki_description: Obsolete, EOL, TVS Diode Array, 1.2V Standoff, 8 Channels, UDFN-9; ki_fp_filters: UDFN*1.0x3.8mm*P0.5mm*; Footprint: Package_DFN_QFN:UDFN-9_1.0x3.8mm_P0.5mm; Datasheet: https://eu.mouser.com/datasheet/2/445/824014881-1724976.pdf
pins: 1 K1, 2 K2, 3 A, 4 K3, 5 K4, 6 K5, 7 K6, 8 K7, 9 K8

## WE-TVS-824015043
designator *  value WE-TVS-824015043  Reference: U
ki_keywords: ESD Protection TVS High-speed USB; ki_description: Low Capacitance TVS Diode Array, 2 Channels, SOT-23-6; ki_fp_filters: SOT?23*; Footprint: Package_TO_SOT_SMD:SOT-23-6; Datasheet: https://www.we-online.com/components/products/datasheet/824015043.pdf
pins: 1 I/O1, 2 GND, 3 I/O2, 4 I/O3, 5 VBUS, 6 I/O4

## ZEN056V075A48LS
designator *  value ZEN056V075A48LS  Reference: D
ki_keywords: Polymer zener; ki_description: Polymer Protected Zener Diode, 5.6V, 0.75A, 48V, LS; ki_fp_filters: Littelfuse*PolyZen*LS*; Footprint: Diode_SMD:Littelfuse_PolyZen-LS; Datasheet: http://m.littelfuse.com/~/media/electronics/datasheets/polyzen_devices/littelfuse_polyzen_standard_polyzen_catalog_datasheet.pdf.pdf
pins: 1 VIN, 2 GND, 3 VOUT

## ZEN056V115A24LS
designator *  value ZEN056V115A24LS  Reference: D
ki_keywords: Polymer zener; ki_description: Polymer Protected Zener Diode, 5.6V, 1.15A, 24V, LS; ki_fp_filters: Littelfuse*PolyZen*LS*; Footprint: Diode_SMD:Littelfuse_PolyZen-LS; Datasheet: http://m.littelfuse.com/~/media/electronics/datasheets/polyzen_devices/littelfuse_polyzen_standard_polyzen_catalog_datasheet.pdf.pdf
pins: 1 VIN, 2 GND, 3 VOUT

## ZEN056V130A24LS
designator *  value ZEN056V130A24LS  Reference: D
ki_keywords: Polymer zener; ki_description: Polymer Protected Zener Diode, 5.6V, 1.30A, 24V, LS; ki_fp_filters: Littelfuse*PolyZen*LS*; Footprint: Diode_SMD:Littelfuse_PolyZen-LS; Datasheet: http://m.littelfuse.com/~/media/electronics/datasheets/polyzen_devices/littelfuse_polyzen_standard_polyzen_catalog_datasheet.pdf.pdf
pins: 1 VIN, 2 GND, 3 VOUT

## ZEN056V230A16LS
designator *  value ZEN056V230A16LS  Reference: D
ki_keywords: Polymer zener; ki_description: Polymer Protected Zener Diode, 5.6V, 2.30A, 16V, LS; ki_fp_filters: Littelfuse*PolyZen*LS*; Footprint: Diode_SMD:Littelfuse_PolyZen-LS; Datasheet: http://m.littelfuse.com/~/media/electronics/datasheets/polyzen_devices/littelfuse_polyzen_standard_polyzen_catalog_datasheet.pdf.pdf
pins: 1 VIN, 2 GND, 3 VOUT

## ZEN059V130A24LS
designator *  value ZEN059V130A24LS  Reference: D
ki_keywords: Polymer zener; ki_description: Polymer Protected Zener Diode, 5.9V, 1.30A, 24V, LS; ki_fp_filters: Littelfuse*PolyZen*LS*; Footprint: Diode_SMD:Littelfuse_PolyZen-LS; Datasheet: http://m.littelfuse.com/~/media/electronics/datasheets/polyzen_devices/littelfuse_polyzen_standard_polyzen_catalog_datasheet.pdf.pdf
pins: 1 VIN, 2 GND, 3 VOUT

## ZEN065V130A24LS
designator *  value ZEN065V130A24LS  Reference: D
ki_keywords: Polymer zener; ki_description: Polymer Protected Zener Diode, 6.5V, 1.30A, 24V, LS; ki_fp_filters: Littelfuse*PolyZen*LS*; Footprint: Diode_SMD:Littelfuse_PolyZen-LS; Datasheet: http://m.littelfuse.com/~/media/electronics/datasheets/polyzen_devices/littelfuse_polyzen_standard_polyzen_catalog_datasheet.pdf.pdf
pins: 1 VIN, 2 GND, 3 VOUT

## ZEN065V230A16LS
designator *  value ZEN065V230A16LS  Reference: D
ki_keywords: Polymer zener; ki_description: Polymer Protected Zener Diode, 6.5V, 2.30A, 16V, LS; ki_fp_filters: Littelfuse*PolyZen*LS*; Footprint: Diode_SMD:Littelfuse_PolyZen-LS; Datasheet: http://m.littelfuse.com/~/media/electronics/datasheets/polyzen_devices/littelfuse_polyzen_standard_polyzen_catalog_datasheet.pdf.pdf
pins: 1 VIN, 2 GND, 3 VOUT

## ZEN098V130A24LS
designator *  value ZEN098V130A24LS  Reference: D
ki_keywords: Polymer zener; ki_description: Polymer Protected Zener Diode, 9.8V, 1.30A, 24V, LS; ki_fp_filters: Littelfuse*PolyZen*LS*; Footprint: Diode_SMD:Littelfuse_PolyZen-LS; Datasheet: http://m.littelfuse.com/~/media/electronics/datasheets/polyzen_devices/littelfuse_polyzen_standard_polyzen_catalog_datasheet.pdf.pdf
pins: 1 VIN, 2 GND, 3 VOUT

## ZEN098V230A16LS
designator *  value ZEN098V230A16LS  Reference: D
ki_keywords: Polymer zener; ki_description: Polymer Protected Zener Diode, 9.8V, 2.30A, 16V, LS; ki_fp_filters: Littelfuse*PolyZen*LS*; Footprint: Diode_SMD:Littelfuse_PolyZen-LS; Datasheet: http://m.littelfuse.com/~/media/electronics/datasheets/polyzen_devices/littelfuse_polyzen_standard_polyzen_catalog_datasheet.pdf.pdf
pins: 1 VIN, 2 GND, 3 VOUT

## ZEN132V075A48LS
designator *  value ZEN132V075A48LS  Reference: D
ki_keywords: Polymer zener; ki_description: Polymer Protected Zener Diode, 13.2V, 0.75A, 48V, LS; ki_fp_filters: Littelfuse*PolyZen*LS*; Footprint: Diode_SMD:Littelfuse_PolyZen-LS; Datasheet: http://m.littelfuse.com/~/media/electronics/datasheets/polyzen_devices/littelfuse_polyzen_standard_polyzen_catalog_datasheet.pdf.pdf
pins: 1 VIN, 2 GND, 3 VOUT

## ZEN132V130A24LS
designator *  value ZEN132V130A24LS  Reference: D
ki_keywords: Polymer zener; ki_description: Polymer Protected Zener Diode, 13.2V, 1.30A, 24V, LS; ki_fp_filters: Littelfuse*PolyZen*LS*; Footprint: Diode_SMD:Littelfuse_PolyZen-LS; Datasheet: http://m.littelfuse.com/~/media/electronics/datasheets/polyzen_devices/littelfuse_polyzen_standard_polyzen_catalog_datasheet.pdf.pdf
pins: 1 VIN, 2 GND, 3 VOUT

## ZEN132V230A16LS
designator *  value ZEN132V230A16LS  Reference: D
ki_keywords: Polymer zener; ki_description: Polymer Protected Zener Diode, 13.2V, 2.30A, 16V, LS; ki_fp_filters: Littelfuse*PolyZen*LS*; Footprint: Diode_SMD:Littelfuse_PolyZen-LS; Datasheet: http://m.littelfuse.com/~/media/electronics/datasheets/polyzen_devices/littelfuse_polyzen_standard_polyzen_catalog_datasheet.pdf.pdf
pins: 1 VIN, 2 GND, 3 VOUT

## ZEN164V130A24LS
designator *  value ZEN164V130A24LS  Reference: D
ki_keywords: Polymer zener; ki_description: Polymer Protected Zener Diode, 16.4V, 1.30A, 24V, LS; ki_fp_filters: Littelfuse*PolyZen*LS*; Footprint: Diode_SMD:Littelfuse_PolyZen-LS; Datasheet: http://m.littelfuse.com/~/media/electronics/datasheets/polyzen_devices/littelfuse_polyzen_standard_polyzen_catalog_datasheet.pdf.pdf
pins: 1 VIN, 2 GND, 3 VOUT